# Altium schematic symbol library Schlib1.SchLib: 2 symbols
Pins are listed as number, name and electrical type; pins without a type are passive.

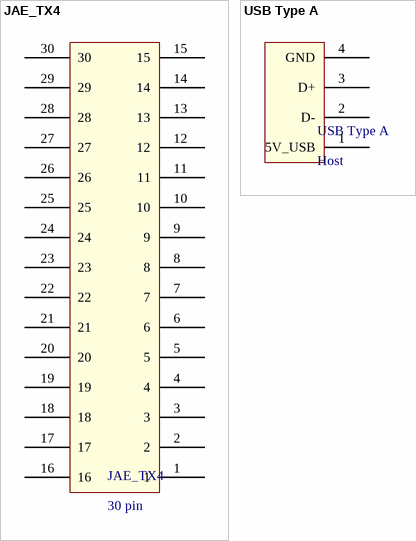
[diagram p0: symbols JAE_TX4 to USB Type A]

## JAE_TX4
designator JAE_TX4, comment 30 pin
footprint TX_24
pins: 1, 2, 3, 4, 5, 6, 7, 8, 9, 10, 11, 12, 13, 14, 15, 16, 17, 18, 19, 20, 21, 22, 23, 24, 25, 26, 27, 28, 29, 30

## USB Type A
designator USB Type A, comment Host
footprint USB 2.0 Type A Female
pins: 1 5V_USB, 2 D-, 3 D+, 4 GND